# Altium integrated library BLM31PG601SN1L.IntLib: 1 symbol
Pins are listed as number, name and electrical type; pins without a type are passive.

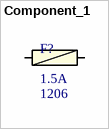
[diagram p0: symbol Component_1]

## Component_1
designator F?, comment 1.5A  PCB type: 1206
Buying URL:: https://uk.farnell.com/murata/blm31pg601sn1l/ferrite-bead-600r-1-5a-1206/dp/2672840
footprint *CAP3216X125N
pins: 1, 2